# EAGLE library part CON_RIB_POS6 (library iBionics)
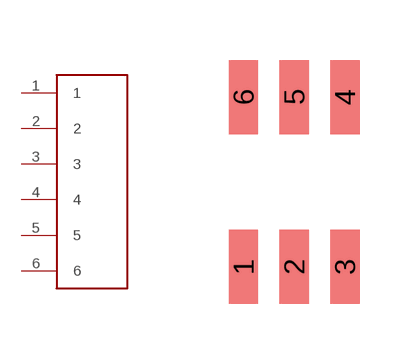
[diagram p9: symbol with the pads of CON_RIB_POS6; footprint CON_RIB_POS6]

Designator prefix -

## CON_RIB_POS6  [CON_RIB_POS6]
1  1
2  2
3  3
4  4
5  5
6  6

## Footprint CON_RIB_POS6 (pad centres in mm)
smd 0.737 x 1.854: 1 -1.27,-2.121; 2 0,-2.121; 3 1.27,-2.121; 4 1.27,2.121; 5 0,2.121; 6 -1.27,2.121